# EAGLE library part CC2530 (library chipcon-ti-V2)
A True System-on-Chip Solution for 2.4-GHz IEEE 802.15.4 and ZigBee Applications
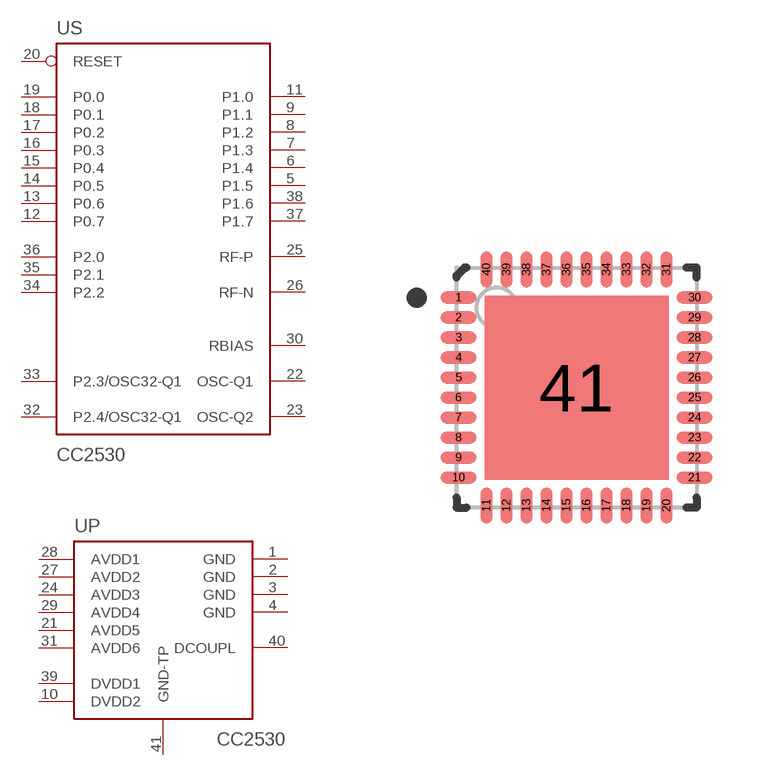
[diagram p13: symbol with the pads of QFN50P600X600X100-41N; footprint QFN50P600X600X100-41N]

Designator prefix -; gates S=CC2530 P=CC2530-PWR

## CC2530  [QFN50P600X600X100-41N]
1  P:GND  pwr
2  P:GND  pwr
3  P:GND  pwr
4  P:GND  pwr
5  S:P1.5
6  S:P1.4
7  S:P1.3
8  S:P1.2
9  S:P1.1
10  P:DVDD2  pwr
11  S:P1.0
12  S:P0.7
13  S:P0.6
14  S:P0.5
15  S:P0.4
16  S:P0.3
17  S:P0.2
18  S:P0.1
19  S:P0.0
20  S:RESET  in
21  P:AVDD5  pwr
22  S:OSC-Q1
23  S:OSC-Q2
24  P:AVDD3  pwr
25  S:RF-P
26  S:RF-N
27  P:AVDD2  pwr
28  P:AVDD1  pwr
29  P:AVDD4  pwr
30  S:RBIAS
31  P:AVDD6  pwr
32  S:P2.4/OSC32-Q1
33  S:P2.3/OSC32-Q1
34  S:P2.2
35  S:P2.1
36  S:P2.0
37  S:P1.7
38  S:P1.6
39  P:DVDD1  pwr
40  P:DCOUPL  pwr
41  P:GND-TP  pwr

## Footprint QFN50P600X600X100-41N (pad centres in mm)
QFN,0.50mm pitch,square;40 pin,6.00mm L X 6.00mm W X 1.00mm H body (w/thermal tab) IPC7351A for VQFN40
smd 0.9 x 0.3: 1 -2.95,2.25; 2 -2.95,1.75; 3 -2.95,1.25; 4 -2.95,0.75; 5 -2.95,0.25; 6 -2.95,-0.25; 7 -2.95,-0.75; 8 -2.95,-1.25; 9 -2.95,-1.75; 10 -2.95,-2.25; 21 2.95,-2.25; 22 2.95,-1.75; 23 2.95,-1.25; 24 2.95,-0.75; 25 2.95,-0.25; 26 2.95,0.25; 27 2.95,0.75; 28 2.95,1.25; 29 2.95,1.75; 30 2.95,2.25
smd 0.3 x 0.9: 11 -2.25,-2.95; 12 -1.75,-2.95; 13 -1.25,-2.95; 14 -0.75,-2.95; 15 -0.25,-2.95; 16 0.25,-2.95; 17 0.75,-2.95; 18 1.25,-2.95; 19 1.75,-2.95; 20 2.25,-2.95; 31 2.25,2.95; 32 1.75,2.95; 33 1.25,2.95; 34 0.75,2.95; 35 0.25,2.95; 36 -0.25,2.95; 37 -0.75,2.95; 38 -1.25,2.95; 39 -1.75,2.95; 40 -2.25,2.95
smd 4.6 x 4.6: 41 0,0